# EAGLE library part DURACLIK-08 (library BMC components)
MOLEX DuraClik Wire-to-Board Header, Single Row, Right Angle, 8 Circuits Drawing: 5023520600_sd.pdf <http://www.molex.com/pdm_docs/sd/5023520600_sd.pdf> Information: 502352-0800 <http://www.molex.com/molex/products/datasheet.jsp?part=active/5023520800_PCB_HEADERS.xml>
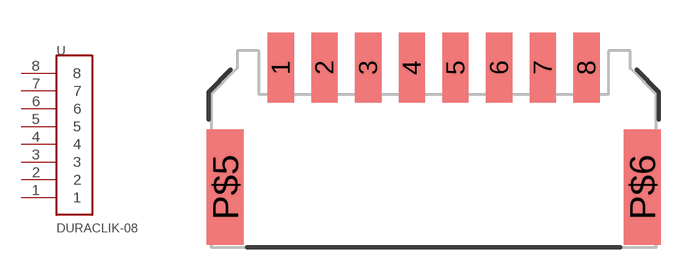
[diagram p6: symbol with the pads of DURACLIK-08; footprint DURACLIK-08]

Designator prefix -

## DURACLIK-08  [DURACLIK-08]
1  1
2  2
3  3
4  4
5  5
6  6
7  7
8  8

## Footprint DURACLIK-08 (pad centres in mm)
smd 1.2 x 3.2: 1 -7,8.23; 2 -5,8.23; 3 -3,8.23; 4 -1,8.23; 5 1,8.23; 6 3,8.23; 7 5,8.23; 8 7,8.23
smd 1.7 x 5.3: P$5 -9.55,2.75; P$6 9.55,2.75